# Altium schematic symbol library SIP32509DT-T1-GE3.SchLib: 1 symbol
Pins are listed as number, name and electrical type; pins without a type are passive.

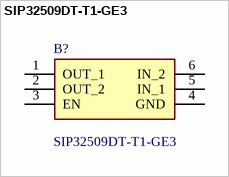
[diagram p0: symbol SIP32509DT-T1-GE3]

## SIP32509DT-T1-GE3
designator B?
Power Switch ICs - Power Distribution 1.1V to 5.5V Slew Rt 3A Cntrld Load Swtch; Manufacturer_Name: Vishay; Geometry.Height: 1.1mm; Manufacturer_Part_Number: SIP32509DT-T1-GE3; Mouser Part Number: 78-SIP32509DT-T1-GE3; Mouser Price/Stock: https://www.mouser.co.uk/ProductDetail/Vishay-Siliconix/SIP32509DT-T1-GE3?qs=vCSEJkzpMVhwEQErQ51M%2Fw%3D%3D; Arrow Part Number: SIP32509DT-T1-GE3; Arrow Price/Stock: https://www.arrow.com/en/products/sip32509dt-t1-ge3/vishay?region=nac; Mouser Testing Part Number: *; Mouser Testing Price/Stock: *; Datasheet Link: https://componentsearchengine.com/Datasheets/1/SIP32509DT-T1-GE3.pdf
footprint SOT95P284X110-6N
pins: 1 OUT_1, 2 OUT_2, 3 EN, 4 GND, 5 IN_1 (power), 6 IN_2 (power)